# Altium integrated library PLD.IntLib: 1 symbol
Pins are listed as number, name and electrical type; pins without a type are passive.

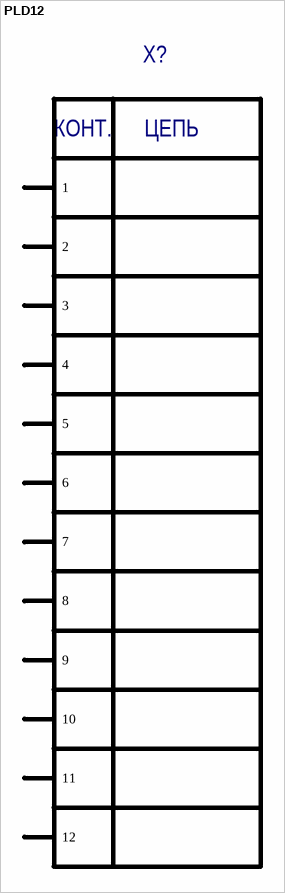
[diagram p0: symbol PLD12]

## PLD12
designator X?  (value not drawn)
Штыри на плату, шаг 2.54мм., однорядные; ManufacturerPartNumber: PLD12; BCPId: *; Rem: *; Package: *; TU/GOST: *; Type: Вилка; HelpURL: *; Price: *
footprint PLD-12
pins: 1, 2, 3, 4, 5, 6, 7, 8, 9, 10, 11, 12
text: КОНТ.; ЦЕПЬ